# Altium footprint library IHLP6767GZER330M11.PcbLib: 1 footprints
Each footprint in its own frame and in the unit in brackets; x right, y up, seen from the top. Pads: shape width x height; smd on the part's side, far side on the other; paste and mask are expansions set on the pad; w line width, h text height; cw(c..) or ccw(c..) is an arc to the next point about the centre after c.
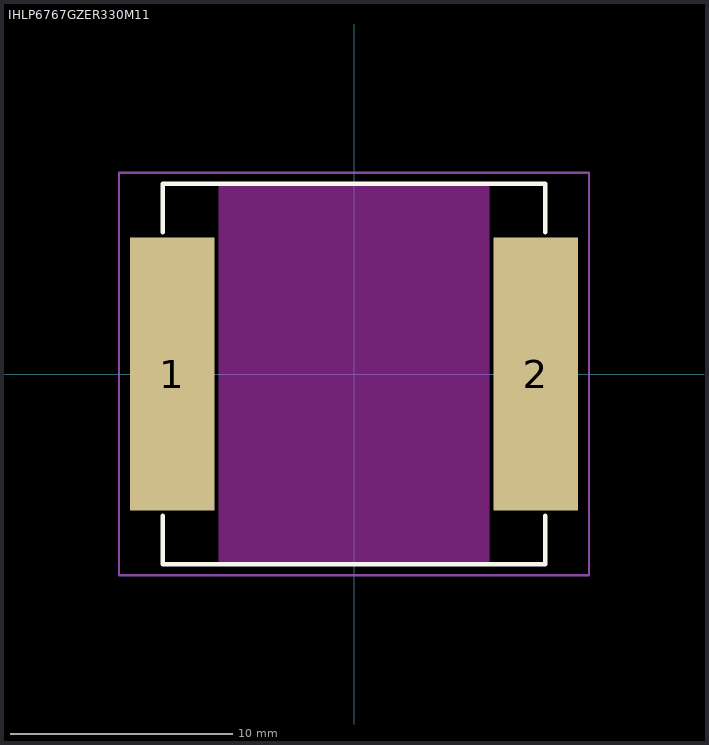
[diagram p0: the footprint, top view; thin cyan lines are the x and y axes]

## IHLP6767GZER330M11 [mm] "17.5 x 17.5"
pads (2):
  rect 3.8x12.3 smd: 1(-8.2,0) 2(8.2,0)
Top Layer keep-out:
  rectangle: -6.1,-8.575 6.1,8.575
Top Overlay:
  lines w0.2: -8.625,-6.4 -8.625,-8.575 8.625,-8.575 8.625,-6.4 ; -8.625,6.4 -8.625,8.575 8.625,8.575 8.625,6.4
Top Courtyard:
  lines w0.1: -10.6,-9.075 -8.625,-9.075 10.6,-9.075 10.6,9.075 -10.6,9.075 -10.6,-9.075
3D body: height 7, standoff 0, extent -8.62,-8.573 8.62,8.573